# Altium schematic symbol library 11111EL-sense_Connector  OLD.SchLib: 19 symbols
Pins are listed as number, name and electrical type; pins without a type are passive.

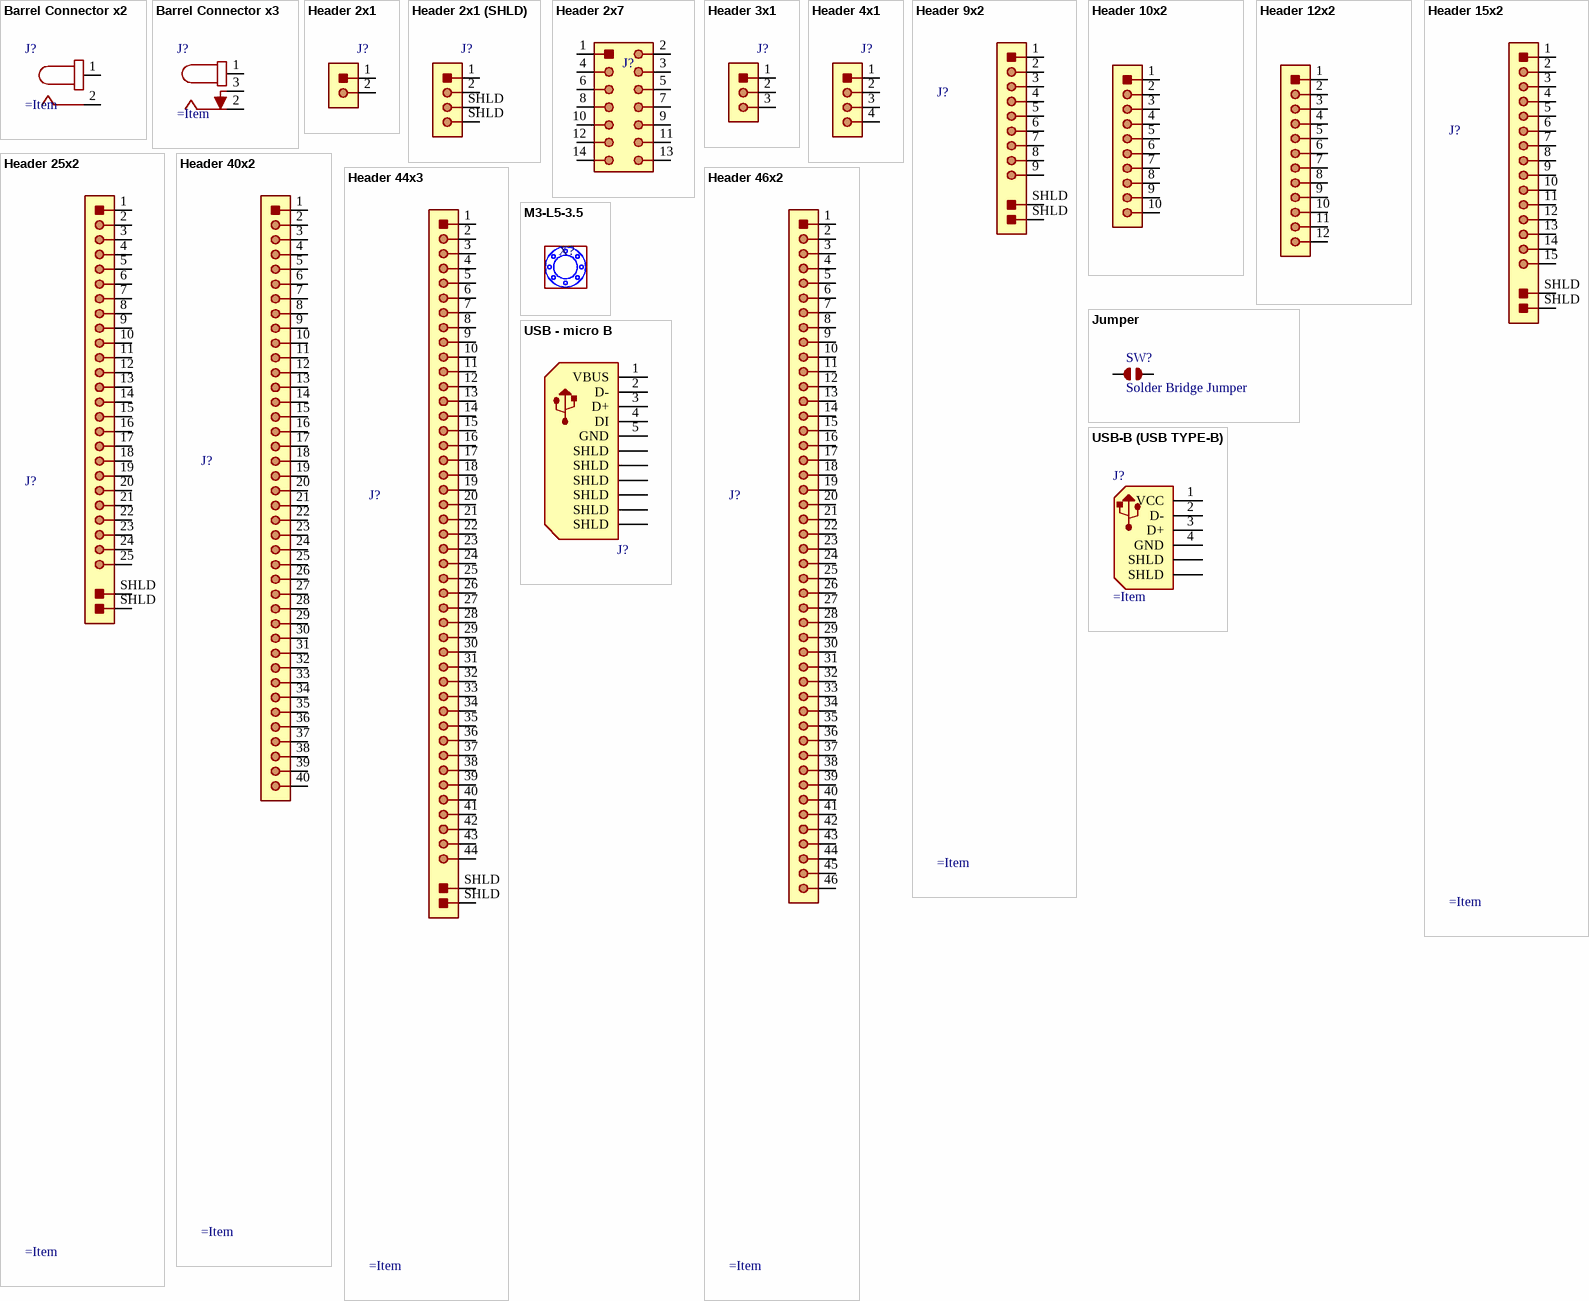
[diagram p0: symbols Barrel Connector x2 to USB-B (USB TYPE-B)]

## Barrel Connector x2
designator J?
pins: 1, 2

## Barrel Connector x3
designator J?
pins: 1, 2, 3

## Header 2x1
designator J?
pins: 1, 2

## Header 2x1 (SHLD)
designator J?
pins: 1, 2, SHLD, SHLD

## Header 2x7
designator J?
pins: 1, 2, 3, 4, 5, 6, 7, 8, 9, 10, 11, 12, 13, 14

## Header 3x1
designator J?
pins: 1, 2, 3

## Header 4x1
designator J?
pins: 1, 2, 3, 4

## Header 9x2
designator J?
pins: 1, 2, 3, 4, 5, 6, 7, 8, 9, SHLD, SHLD

## Header 10x2
designator J?
pins: 1, 2, 3, 4, 5, 6, 7, 8, 9, 10

## Header 12x2
designator J?
pins: 1, 2, 3, 4, 5, 6, 7, 8, 9, 10, 11, 12

## Header 15x2
designator J?
pins: 1, 2, 3, 4, 5, 6, 7, 8, 9, 10, 11, 12, 13, 14, 15, SHLD, SHLD

## Header 25x2
designator J?
pins: 1, 2, 3, 4, 5, 6, 7, 8, 9, 10, 11, 12, 13, 14, 15, 16, 17, 18, 19, 20, 21, 22, 23, 24, 25, SHLD, SHLD

## Header 40x2
designator J?
pins: 1, 2, 3, 4, 5, 6, 7, 8, 9, 10, 11, 12, 13, 14, 15, 16, 17, 18, 19, 20, 21, 22, 23, 24, 25, 26, 27, 28, 29, 30, 31, 32, 33, 34, 35, 36, 37, 38, 39, 40

## Header 44x3
designator J?
pins: 1, 2, 3, 4, 5, 6, 7, 8, 9, 10, 11, 12, 13, 14, 15, 16, 17, 18, 19, 20, 21, 22, 23, 24, 25, 26, 27, 28, 29, 30, 31, 32, 33, 34, 35, 36, 37, 38, 39, 40, 41, 42, 43, 44, SHLD, SHLD

## Header 46x2
designator J?
pins: 1, 2, 3, 4, 5, 6, 7, 8, 9, 10, 11, 12, 13, 14, 15, 16, 17, 18, 19, 20, 21, 22, 23, 24, 25, 26, 27, 28, 29, 30, 31, 32, 33, 34, 35, 36, 37, 38, 39, 40, 41, 42, 43, 44, 45, 46

## Jumper
designator SW?, comment Solder Bridge Jumper
footprint Jumper
pins: 1, 2

## M3-L5-3.5
designator X?  (no BOM)
Manufacturer: El-sense; Gender: Female; Mounting Type: PCB Hole; Supplier 1: El-sense; Supplier Part Number 1: El-sense

## USB - micro B
designator J?
pins: 1 VBUS (power), 2 D-, 3 D+, 4 DI, 5 GND (power), SHLD, SHLD, SHLD, SHLD, SHLD, SHLD

## USB-B (USB TYPE-B)
designator J?
Manufacturer: CUI Devices; Case: USB Type B Female; Supplier 1: Mouser; Supplier Part Number 1: 490-UJ2-BH-W2-TH; ComponentLink1Description: HelpURL; ComponentLink1URL: https://ru.mouser.com/datasheet/2/670/uj2_bh_th-1779177.pdf
pins: 1 VCC, 2 D-, 3 D+, 4 GND, SHLD, SHLD